# EAGLE library part VNH5050ATR_E (library st-microelectronics)
The VNH5050A-E is a full bridge motor driver intended for a wide range of automotive applications. The device incorporates a dual monolithic high-side driver and two low-side switches.
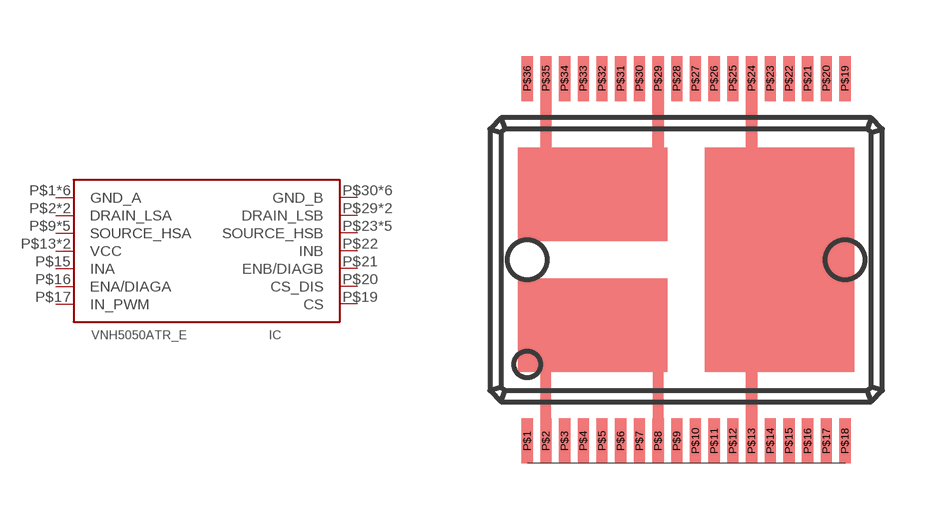
[diagram p60: symbol with the pads of PSSO-36TP; footprint PSSO-36TP]

Designator prefix IC

## VNH5050ATR_E  [PSSO-36TP]
P$1  GND_A  pwr
P$2  DRAIN_LSA  out
P$3  GND_A  pwr
P$4  GND_A  pwr
P$5  GND_A  pwr
P$6  GND_A  pwr
P$7  GND_A  pwr
P$8  DRAIN_LSA  out
P$9  SOURCE_HSA  out
P$10  SOURCE_HSA  out
P$11  SOURCE_HSA  out
P$12  SOURCE_HSA  out
P$13  VCC  pwr
P$14  SOURCE_HSA  out
P$15  INA  in
P$16  ENA/DIAGA  oc
P$17  IN_PWM  in
P$19  CS  out
P$20  CS_DIS  out
P$21  ENB/DIAGB  oc
P$22  INB  in
P$23  SOURCE_HSB  out
P$24  VCC  pwr
P$25  SOURCE_HSB  out
P$26  SOURCE_HSB  out
P$27  SOURCE_HSB  out
P$28  SOURCE_HSB  out
P$29  DRAIN_LSB  out
P$30  GND_B  pwr
P$31  GND_B  pwr
P$32  GND_B  pwr
P$33  GND_B  pwr
P$34  GND_B  pwr
P$35  DRAIN_LSB  out
P$36  GND_B  pwr

## Footprint PSSO-36TP (pad centres in mm)
PowerSSO-36 TP package
smd 0.3 x 1.2: P$1 -4.25,-4.85; P$2 -3.75,-4.85; P$3 -3.25,-4.85; P$4 -2.75,-4.85; P$5 -2.25,-4.85; P$6 -1.75,-4.85; P$7 -1.25,-4.85; P$8 -0.75,-4.85; P$9 -0.25,-4.85; P$10 0.25,-4.85; P$11 0.75,-4.85; P$12 1.25,-4.85; P$13 1.75,-4.85; P$14 2.25,-4.85; P$15 2.75,-4.85; P$16 3.25,-4.85; P$17 3.75,-4.85; P$18 4.25,-4.85; P$19 4.25,4.85; P$20 3.75,4.85; P$21 3.25,4.85; P$22 2.75,4.85; P$23 2.25,4.85; P$24 1.75,4.85; P$25 1.25,4.85; P$26 0.75,4.85; P$27 0.25,4.85; P$28 -0.25,4.85; P$29 -0.75,4.85; P$30 -1.25,4.85; P$31 -1.75,4.85; P$32 -2.25,4.85; P$33 -2.75,4.85; P$34 -3.25,4.85; P$35 -3.75,4.85; P$36 -4.25,4.85